# Altium footprint library CUI PJ-014D.PCBLIB: 1 footprints
Each footprint in its own frame and in the unit in brackets; x right, y up, seen from the top. Pads: shape width x height; smd on the part's side, far side on the other; paste and mask are expansions set on the pad; w line width, h text height; cw(c..) or ccw(c..) is an arc to the next point about the centre after c.
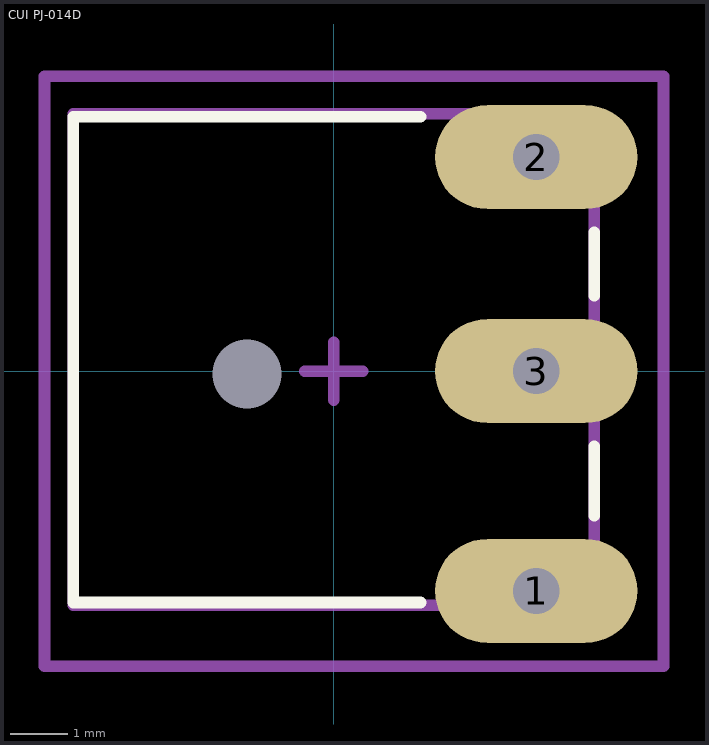
[diagram p0: the footprint, top view; thin cyan lines are the x and y axes]

## CUI PJ-014D [mm]
height 5.5
pads (4):
  oval 3.5x1.8 hole 0.8 square: 1(3.5,-3.8) 2(3.5,3.7) 3(3.5,0)
  round 0 hole 1.2 unplated: M(-1.5,-0.05)
Top Overlay:
  lines w0.2: 1.5,-4 -4.5,-4 -4.5,4.4 1.5,4.4 ; 4.5,-2.5 4.5,-1.3 ; 4.5,1.3 4.5,2.4
Mechanical 1:
  lines w0.2: -4.5,-4.05 -4.5,4.45 4.5,4.45 4.5,-4.05 -4.5,-4.05
Mechanical 15:
  lines w0.2: -0.5,0 0.5,0 ; 0,-0.5 0,0.5 ; -5,-5.1 -5,5.1 5.7,5.1 5.7,-5.1 -5,-5.1
3D body "CUI PJ-014D.STEP": height 5.5, standoff -3.5, extent -4.5,-4.05 4.5,4.45